# Altium footprint library MCU.PcbLib: 1 footprints
Each footprint in its own frame and in the unit in brackets; x right, y up, seen from the top. Pads: shape width x height; smd on the part's side, far side on the other; paste and mask are expansions set on the pad; w line width, h text height; cw(c..) or ccw(c..) is an arc to the next point about the centre after c.
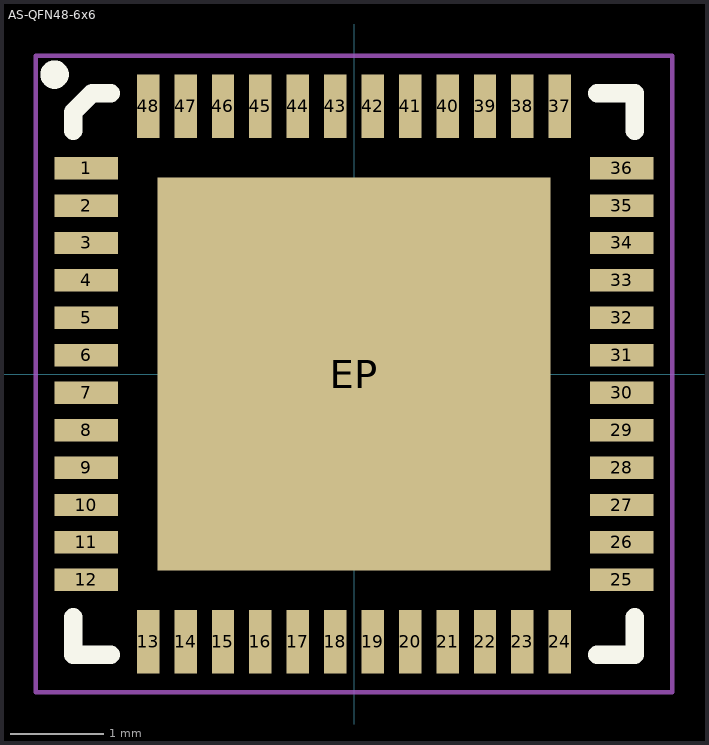
[diagram p0: the footprint, top view; thin cyan lines are the x and y axes]

## AS-QFN48-6x6 [mm]
pads (49):
  rect 0.68x0.24 smd mask+0.05: 1(-2.86,2.2) 2(-2.86,1.8) 3(-2.86,1.4) 4(-2.86,1) 5(-2.86,0.6) 6(-2.86,0.2) 7(-2.86,-0.2) 8(-2.86,-0.6) 9(-2.86,-1) 10(-2.86,-1.4) 11(-2.86,-1.8) 12(-2.86,-2.2) 25(2.86,-2.2) 26(2.86,-1.8) 27(2.86,-1.4) 28(2.86,-1) 29(2.86,-0.6) 30(2.86,-0.2) 31(2.86,0.2) 32(2.86,0.6) 33(2.86,1) 34(2.86,1.4) 35(2.86,1.8) 36(2.86,2.2)
  rect 0.24x0.68 smd mask+0.05: 13(-2.2,-2.86) 14(-1.8,-2.86) 15(-1.4,-2.86) 16(-1,-2.86) 17(-0.6,-2.86) 18(-0.2,-2.86) 19(0.2,-2.86) 20(0.6,-2.86) 21(1,-2.86) 22(1.4,-2.86) 23(1.8,-2.86) 24(2.2,-2.86) 37(2.2,2.86) 38(1.8,2.86) 39(1.4,2.86) 40(1,2.86) 41(0.6,2.86) 42(0.2,2.86) 43(-0.2,2.86) 44(-0.6,2.86) 45(-1,2.86) 46(-1.4,2.86) 47(-1.8,2.86) 48(-2.2,2.86)
  rect 4.2x4.2 smd paste-2.54: EP(0,0)
Top Overlay:
  circle w0.254: c-3.2,3.2 r0.025
  lines w0.2: -3,-2.6 -3,-3 -2.6,-3 ; -3,2.6 -3,2.8 -2.8,3 -2.6,3 ; 2.6,-3 3,-3 3,-2.6 ; 2.6,3 3,3 3,2.6
Top Paste:
  rectangle: -2,-2 -1,-1
  rectangle: -0.5,-2 0.5,-1
  rectangle: 1,-2 2,-1
  rectangle: 1,-0.5 2,0.5
  rectangle: -0.5,-0.5 0.5,0.5
  rectangle: -2,-0.5 -1,0.5
  rectangle: 1,1 2,2
  rectangle: -0.5,1 0.5,2
  rectangle: -2,1 -1,2
Mechanical 15:
  lines w0.05: -3.4,-3.4 3.4,-3.4 3.4,3.4 -3.4,3.4 -3.4,-3.4
  text ".Designator" at -3.1,-0.4 h1.5
3D body: height 0.8, standoff 0.05, extent -3,-3 3,3